# EAGLE library part CRUMBX128A3 (library chip45_EagleLib_090813)
CrumbX128A3 V1.2 CrumbX128A3 V1.2 is a versatile, very small (just 40x30mm footprint!) microcontroller module with the ATxmega128A3 microcontroller, CP2102 USB UART converter, RS485 transceiver, voltage regulator and micro sd-card slot. All ATxmega128A3 signals are available on pads. A selectable XTAL crystal or watch crystal is included.
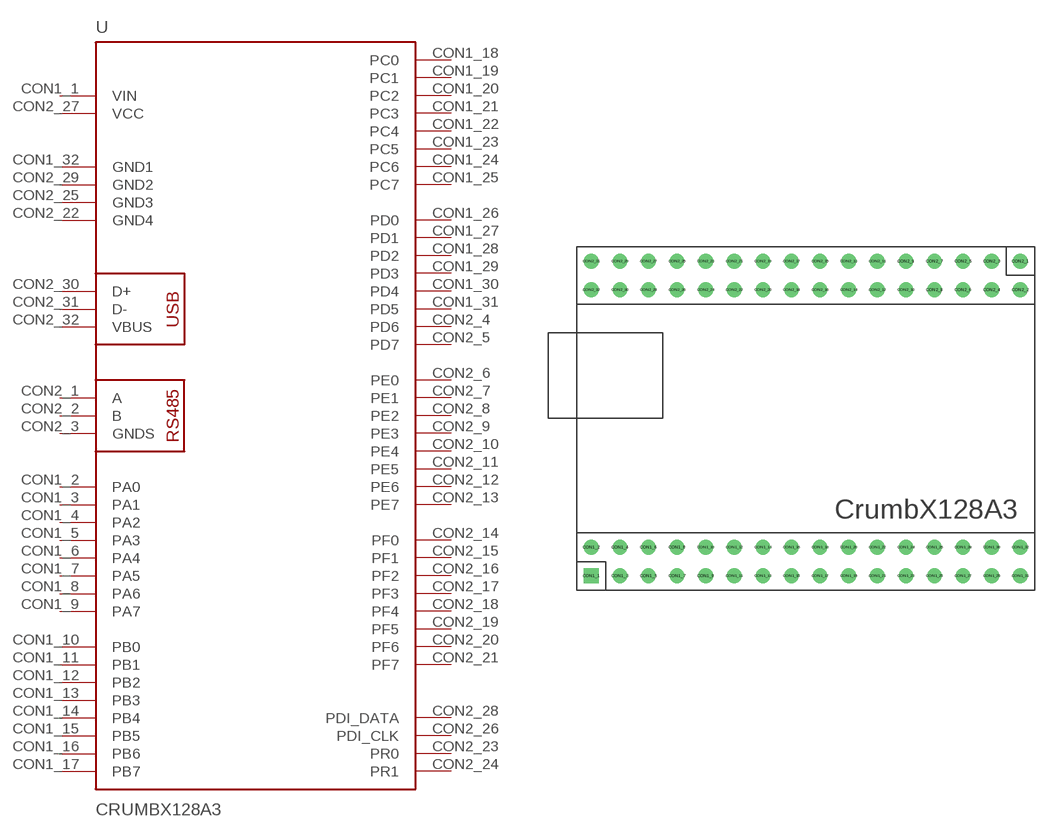
[diagram p13: symbol with the pads of CRUMBX128A3; footprint CRUMBX128A3]

Designator prefix -

## CRUMBX128A3 (EEPROM: 2 kB; FLASH: 128 kB; PERIPHERALS: CP2102 USB-UART converter, mini USB B 5pin connector, MAX3362 3.3V RS485 transceiver, status LED and tiny reset button; PROCESSOR: ATxmega128A3; RAM: 8 kB SRAM)  [CRUMBX128A3]
CON1_1  VIN  nc
CON1_2  PA0
CON1_3  PA1
CON1_4  PA2
CON1_5  PA3
CON1_6  PA4
CON1_7  PA5
CON1_8  PA6
CON1_9  PA7
CON1_10  PB0
CON1_11  PB1
CON1_12  PB2
CON1_13  PB3
CON1_14  PB4
CON1_15  PB5
CON1_16  PB6
CON1_17  PB7
CON1_18  PC0
CON1_19  PC1
CON1_20  PC2
CON1_21  PC3
CON1_22  PC4
CON1_23  PC5
CON1_24  PC6
CON1_25  PC7
CON1_26  PD0
CON1_27  PD1
CON1_28  PD2
CON1_29  PD3
CON1_30  PD4
CON1_31  PD5
CON1_32  GND1  pwr
CON2_1  A  in
CON2_2  B  out
CON2_3  GNDS
CON2_4  PD6
CON2_5  PD7
CON2_6  PE0
CON2_7  PE1
CON2_8  PE2
CON2_9  PE3
CON2_10  PE4
CON2_11  PE5
CON2_12  PE6
CON2_13  PE7
CON2_14  PF0
CON2_15  PF1
CON2_16  PF2
CON2_17  PF3
CON2_18  PF4
CON2_19  PF5
CON2_20  PF6
CON2_21  PF7
CON2_22  GND4  pwr
CON2_23  PR0
CON2_24  PR1
CON2_25  GND3  pwr
CON2_26  PDI_CLK
CON2_27  VCC  in
CON2_28  PDI_DATA
CON2_29  GND2  pwr
CON2_30  D+
CON2_31  D-
CON2_32  VBUS

## Footprint CRUMBX128A3 (pad centres in mm)
CrumbX128A3 CrumbX128A3 V1.2 is a versatile, very small (just 40x30mm footprint!) microcontroller module with the ATxmega128A3 microcontroller, CP2102 USB UART converter, RS485 transceiver, voltage regulator and micro sd-card slot. All ATxmega128A3 signals are available on pads. A selectable XTAL crystal or watch crystal is included.
drill 0.8 square: CON1_1 -19.05,-13.97
drill 0.8 round: CON1_2 -19.05,-11.43; CON1_3 -16.51,-13.97; CON1_4 -16.51,-11.43; CON1_5 -13.97,-13.97; CON1_6 -13.97,-11.43; CON1_7 -11.43,-13.97; CON1_8 -11.43,-11.43; CON1_9 -8.89,-13.97; CON1_10 -8.89,-11.43; CON1_11 -6.35,-13.97; CON1_12 -6.35,-11.43; CON1_13 -3.81,-13.97; CON1_14 -3.81,-11.43; CON1_15 -1.27,-13.97; CON1_16 -1.27,-11.43; CON1_17 1.27,-13.97; CON1_18 1.27,-11.43; CON1_19 3.81,-13.97; CON1_20 3.81,-11.43; CON1_21 6.35,-13.97; CON1_22 6.35,-11.43; CON1_23 8.89,-13.97; CON1_24 8.89,-11.43; CON1_25 11.43,-13.97; CON1_26 11.43,-11.43; CON1_27 13.97,-13.97; CON1_28 13.97,-11.43; CON1_29 16.51,-13.97; CON1_30 16.51,-11.43; CON1_31 19.05,-13.97; CON1_32 19.05,-11.43; CON2_1 19.05,13.97; CON2_2 19.05,11.43; CON2_3 16.51,13.97; CON2_4 16.51,11.43; CON2_5 13.97,13.97; CON2_6 13.97,11.43; CON2_7 11.43,13.97; CON2_8 11.43,11.43; CON2_9 8.89,13.97; CON2_10 8.89,11.43; CON2_11 6.35,13.97; CON2_12 6.35,11.43; CON2_13 3.81,13.97; CON2_14 3.81,11.43; CON2_15 1.27,13.97; CON2_16 1.27,11.43; CON2_17 -1.27,13.97; CON2_18 -1.27,11.43; CON2_19 -3.81,13.97; CON2_20 -3.81,11.43; CON2_21 -6.35,13.97; CON2_22 -6.35,11.43; CON2_23 -8.89,13.97; CON2_24 -8.89,11.43; CON2_25 -11.43,13.97; CON2_26 -11.43,11.43; CON2_27 -13.97,13.97; CON2_28 -13.97,11.43; CON2_29 -16.51,13.97; CON2_30 -16.51,11.43; CON2_31 -19.05,13.97; CON2_32 -19.05,11.43